# Altium schematic symbol library PMBTA06.SchLib: 1 symbol
Pins are listed as number, name and electrical type; pins without a type are passive.

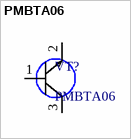
[diagram p0: symbol PMBTA06]

## PMBTA06
designator VT?
footprint SOT-23_ONS-M
pins: 1 B, 2 E, 3 C